# Altium footprint library crystal_my.PCBLIB: 68 footprints (part 4 of 5)
Each footprint in its own frame and in the unit in brackets; x right, y up, seen from the top. Pads: shape width x height; smd on the part's side, far side on the other; paste and mask are expansions set on the pad; w line width, h text height; cw(c..) or ccw(c..) is an arc to the next point about the centre after c.
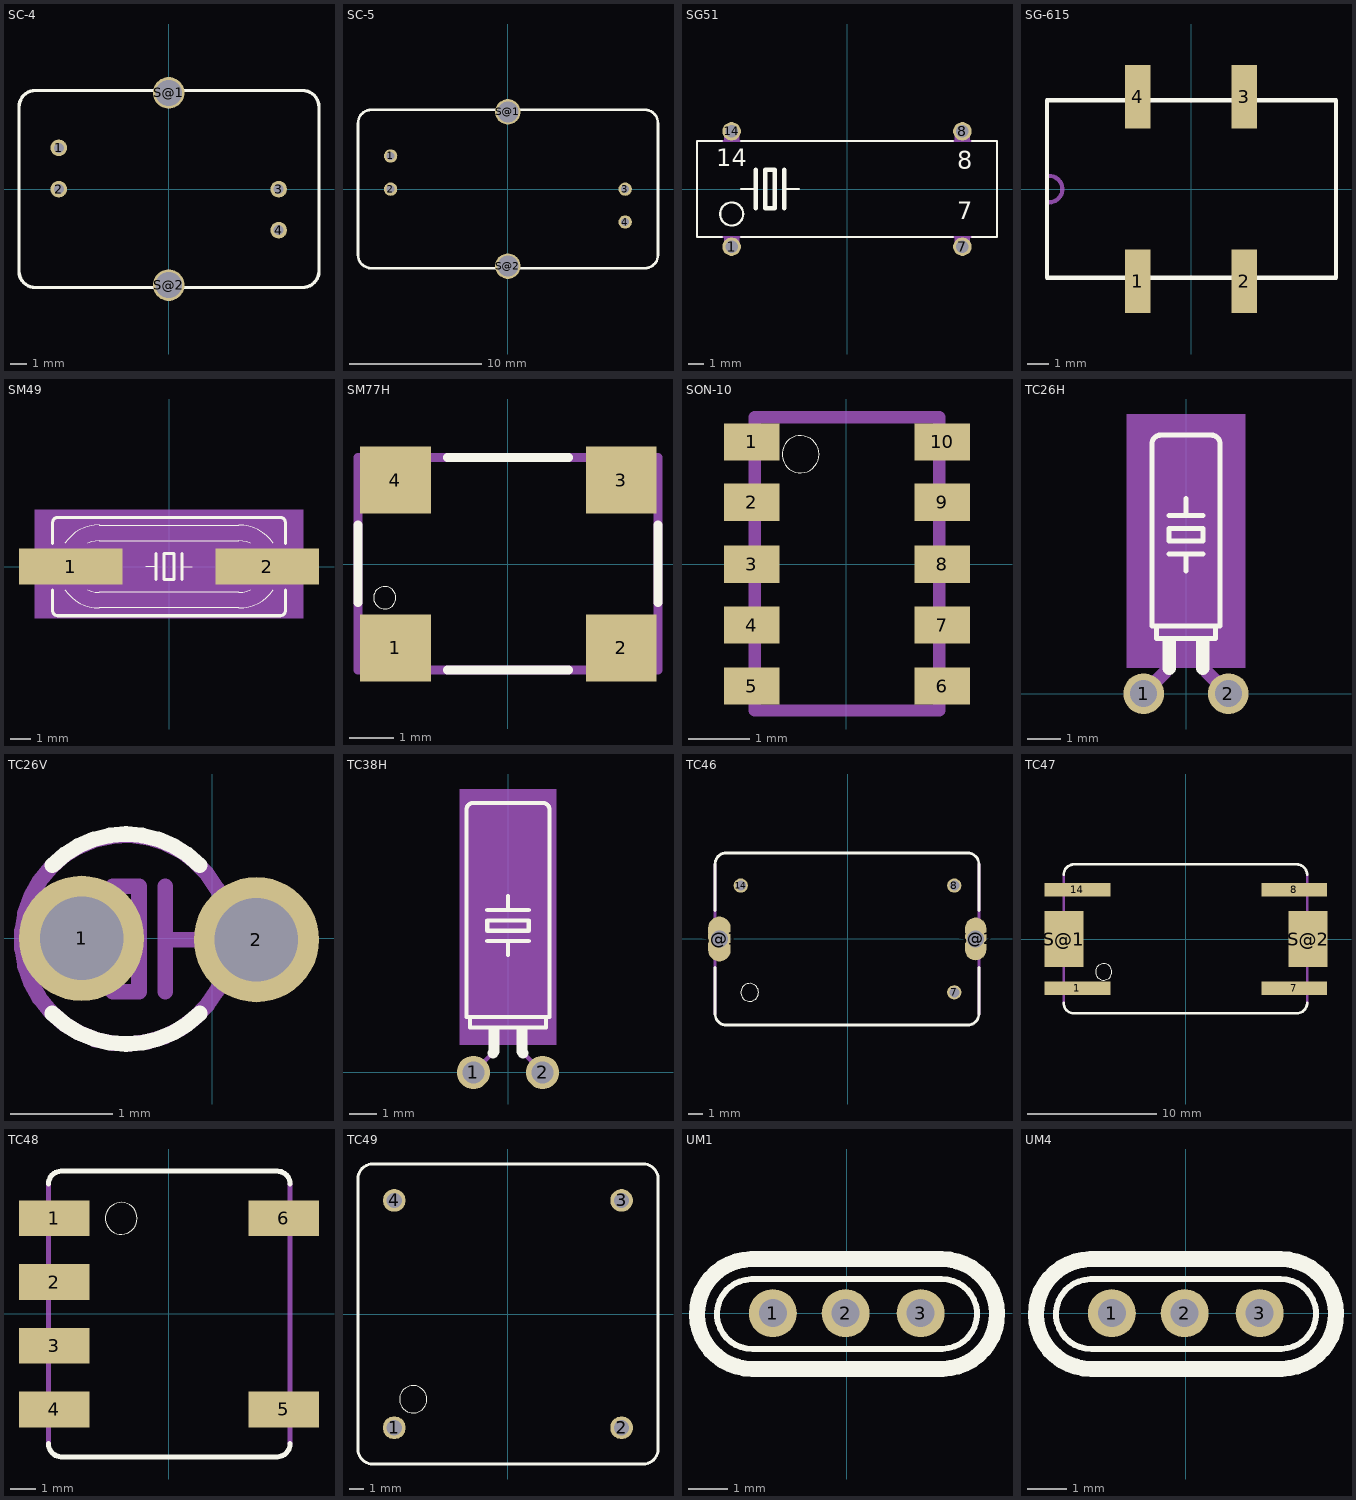
[diagram p3: the footprints below, top view; thin cyan lines are the x and y axes]

## SC-4 [mil]
pads (6):
  round 40 hole 24: 1(-263.78,99) 2(-263.78,0) 3(264,0) 4(264,-98.43)
  round 76 hole 63: S@1(0,231) S@2(0,-230.31)
Top Overlay:
  lines w8: -359.25,-196.85 -359.25,197 cw(c-319.57,197.31) -319.88,237 321,237 cw(c321,197) 361,197 361,-196.85 cw(c321.31,-196.54) 321,-236.22 -319.88,-236.22 cw(c-319.88,-196.85) -359.25,-196.85

## SC-5 [mil]
pads (6):
  round 40 hole 24: 1(-350.39,99) 2(-350.39,0) 3(351,0) 4(351,-98.43)
  round 76 hole 63: S@1(0,231) S@2(0,-230.31)
Top Overlay:
  lines w8: -447.83,-196.85 -447.83,197 cw(c-408.15,197.31) -408.46,237 410,237 cw(c409.5,197.5) 449,197 449,-196.85 cw(c409.81,-197.04) 410,-236.22 -408.46,-236.22 cw(c-408.46,-196.85) -447.83,-196.85

## SG51 [mil]
pads (4):
  round 48 hole 32: 1(-300,-150) 7(300,-150) 8(300,150) 14(-300,150)
Top Overlay:
  circle w6: c-300,-65 r30
  lines w6: -325,-125 -390,-125 -390,125 -325,125 ; -275,-125 275,-125 ; -275,0 -237,0 ; -275,125 275,125 ; -163,0 -125,0 ; 325,-125 390,-125 390,125 325,125
  lines w12: -237,-50 -237,0 -237,50 ; -163,-50 -163,0 -163,50 ; -213,-50 -213,50 -188,50 -188,-50 -213,-50
  text "14" at -340,44 h77.5
  text "7" at 287,-94 h77.5
  text "8" at 287,37 h77.5
Mechanical 16:
  rectangle: 280,-155 320,-125
  rectangle: 280,125 320,155
  rectangle: -320,-155 -280,-125
  rectangle: -320,125 -280,155
  lines w6: -325,-125 -275,-125 ; -325,125 -275,125 ; 275,-125 325,-125 ; 275,125 325,125

## SG-615 [mil]
pads (4):
  rect 48x119 smd: 1(-100,-173.23) 2(100,-173.23) 3(100,174) 4(-100,174)
Top Overlay:
  lines w8: -270.67,-166.34 272,-166.34 272,167 -270.67,167 -270.67,-166.34
Mechanical 16:
  rectangle: -110.24,168 -89.57,193
  rectangle: 90,168 111,193
  region: 111,-167.32 90,-167.32 90,-192.91 111,-192.91
  region: -89.76,-167.32 -110.43,-167.32 -110.43,-192.91 -89.76,-192.91
  lines w8: -266.73,-24.61 ccw(c-266.73,0.2) -266.73,25

## SM49 [mil]
pads (2):
  rect 200x70 smd: 1(-190,0) 2(190,0)
Top Overlay:
  lines w2: -201.15,-45 ccw(c-135,0) -135,-80 135,-80 ccw(c135.42,0.81) 202,-45 ; -201.15,45 cw(c-134.06,0.5) -135,81 ; -156.8,-45 ccw(c-135,0) -135,-50 135,-50 ccw(c135.1,0.45) 157,-45 ; -156.8,45 cw(c-135,0) -135,50 135,50 cw(c135.1,-0.45) 157,45 ; -135,80 135,80 cw(c135.43,-0.81) 202,45 ; -45,0 -25,0 ; 25,0 45,0
  lines w6: -225,-45 -225,-85 ccw(c-215,-85) -215,-95 215,-95 ccw(c215,-85) 225,-85 225,-45 ; -225,45 -225,85 cw(c-215,85) -215,95 215,95 cw(c215,85) 225,85 225,45 ; -25,-25 -25,0 -25,25 ; 25,-25 25,0 25,25 ; -10,-25 -10,25 10,25 10,-25 -10,-25
Mechanical 10:
  rectangle: -260,-100 260,110
Mechanical 16:
  lines w2: -201.15,-45 cw(c-135,0) -201.15,45 ; -156.8,-45 cw(c-135,0) -156.8,45 ; 157,-45 ccw(c135.2,0) 157,45 ; 202,-45 ccw(c135.85,0) 202,45
  lines w6: -225,-45 -225,45 ; -225,-15 -255,-15 -255,15 -225,15 ; 225,-45 225,-15 ; 225,45 225,15 ; 225,-15 225,15 ; 225,-15 255,-15 255,15 225,15

## SM77H [mil]
pads (4):
  rect 63x60 smd: 1(-100.39,-74.8) 2(101,-74.8) 3(101,75) 4(-100.39,75)
Top Overlay:
  circle w0: c-110,-30 r10
  lines w8: -133.86,-34.49 -133.86,35 ; -53.86,-94.49 54,-94.49 ; -53.86,95 54,95 ; 134,-34.49 134,35
Mechanical 16:
  lines w8: -133.86,-94.49 134,-94.49 134,95 -133.86,95 -133.86,-94.49

## SON-10 [mil]
pads (10):
  rect 36x24 smd: 1(-61.02,79) 2(-61.02,40) 3(-61.02,0) 4(-61.02,-39.37) 5(-61.02,-78.74) 6(62,-78.74) 7(62,-39.37) 8(62,0) 9(62,40) 10(62,79)
Top Overlay:
  circle w0: c-29.53,71 r12
Mechanical 16:
  lines w8: -59.06,-94.49 -59.06,95 60,95 60,-94.49 -59.06,-94.49

## TC26H [mil]
pads (2):
  round 48 hole 32: 1(-50,0) 2(50,0)
Top Overlay:
  rectangle: 12,40 28,63
  rectangle: -28,40 -12,63
  lines w6: -20,165 0,165 ; -20,210 0,210 ; 0,145 0,165 ; 0,230 0,210 ; 20,165 0,165 ; 20,210 0,210 ; -35,80 -35,65 35,65 35,80 ; -35,80 -40,80 -40,295 cw(c-30,295) -30,305 30,305 cw(c30,295) 40,295 40,80 35,80 ; -35,80 35,80 ; -20,180 -20,195 20,195 20,180 -20,180
  lines w16: -20,30 -20,50 ; 20,30 20,45
Mechanical 10:
  rectangle: -70,30 70,330
Mechanical 16:
  lines w16: -50,0 -25,25 ; 25,25 50,0

## TC26V [mil]
pads (2):
  round 48 hole 32: 1(-50,0) 2(17,-0.5)
Top Overlay:
  lines w6: -61.28,-28.78 ccw(c-33,-0.5) -33,-40.5 ccw(c-33,-0.5) -4.72,-28.78 ; -61.28,28 cw(c-32.66,-0.14) -33,40 cw(c-33.34,-0.14) -4.72,28
Mechanical 16:
  circle w6: c-33,-0.5 r40
  lines w6: -63,-0.5 -48,-0.5 ; -48,-20.5 -48,-0.5 ; -48,20 -48,-0.5 ; -18,-20.5 -18,-0.5 ; -18,20 -18,-0.5 ; -3,-0.5 -18,-0.5 ; -38,-20.5 -28,-20.5 -28,20 -38,20 -38,-20.5

## TC38H [mil]
pads (2):
  round 48 hole 32: 1(-50,0) 2(50,0)
Top Overlay:
  rectangle: 12,40 28,63
  rectangle: -28,40 -12,63
  lines w6: -30,190 0,190 ; -30,235 0,235 ; 0,170 0,190 ; 0,255 0,235 ; 30,190 0,190 ; 30,235 0,235 ; -55,80 -55,65 55,65 55,80 ; -55,80 -60,80 -60,380 cw(c-50,380) -50,390 50,390 cw(c50,380) 60,380 60,80 55,80 ; -55,80 55,80 ; -30,205 -30,220 30,220 30,205 -30,205
  lines w16: -22,28 -20,30 -20,40 ; 20,45 20,30 22,28
Mechanical 10:
  rectangle: -70,40 70,410
Mechanical 16:
  lines w6: -50,0 -25,25 ; 25,25 50,0

## TC46 [mil]
pads (5):
  round 40 hole 28: 7(300,-150) 8(300,150) 14(-300,150)
  oval 63x126 hole 48: S@1(-360,0)
  oval 60x120 hole 48: S@2(360,0)
Top Overlay:
  circle w0: c-275,-150 r25
  lines w8: -372.05,-80.35 -372.05,-210.63 ccw(c-340.55,-210.63) -340.55,-242.13 337,-242.13 ccw(c337.25,-210.38) 369,-210.63 369,-80.35 ; -372.05,80 -372.05,210 cw(c-340.3,210.25) -340.55,242 337,242 cw(c337,210) 369,210 369,80
Mechanical 11:
  lines w0: -383.62,-30.31 ccw(c-360,-30.32) -360,-53.94 ccw(c-360,-30.32) -336.38,-30.32 -336.38,31 ccw(c-359.69,30.69) -360,54 ccw(c-360.31,30.69) -383.62,31 -383.62,-30.32 ; 337,-30.31 ccw(c360.31,-30.63) 360,-53.94 ccw(c360.19,-30.13) 384,-30.32 384,31 ccw(c360.5,30.5) 360,54 ccw(c360,31) 337,31 337,-30.32
Mechanical 16:
  lines w8: -372.05,-210.63 -372.05,210 ; 369,-210.63 369,210

## TC47 [mil]
pads (6):
  rect 200x40 smd: 1(-329.92,-150) 7(330,-150) 8(330,150) 14(-329.92,150)
  rect 119x170 smd: S@1(-371.06,0) S@2(372,0)
Top Overlay:
  circle w0: c-250,-100 r25
  lines w8: -372.05,-194.88 ccw(c-340.55,-194.88) -340.55,-226.38 337,-226.38 ccw(c337.25,-194.63) 369,-194.88 ; -372.05,195 cw(c-340.3,195.25) -340.55,227 337,227 cw(c337,195) 369,195
Mechanical 16:
  lines w8: -372.05,-194.88 -372.05,195 ; 369,-194.88 369,195

## TC48 [mil]
pads (6):
  rect 111x56 smd: 1(-179.92,150) 2(-179.92,50) 3(-179.92,-50) 4(-179.92,-150) 5(180,-150) 6(180,150)
Top Overlay:
  circle w0: c-75,150 r25
  lines w8: -189.02,-203.68 ccw(c-168.85,-204.23) -169.33,-224.41 170,-224.41 ccw(c169.68,-204.09) 190,-203.68 ; -189.02,204 cw(c-169.21,204.19) -169.33,224 170,224 cw(c170.03,204.03) 190,204
Mechanical 16:
  lines w8: -189.02,-203.68 -189.02,204 ; 190,-203.68 190,204

## TC49 [mil]
pads (4):
  round 60 hole 40: 1(-300,-300) 2(300,-300) 3(300,300) 4(-300,300)
Top Overlay:
  circle w0: c-250,-225 r36
  lines w8: -395.67,-356.3 -395.67,357 cw(c-356.48,356.81) -356.3,396 357,396 cw(c357,357) 396,357 396,-356.3 cw(c356.81,-356.48) 357,-395.67 -356.3,-395.67 cw(c-356.3,-356.3) -395.67,-356.3

## UM1 [mil]
pads (3):
  round 48 hole 28: 1(-73.82,0) 2(-1.06,0) 3(74,0)
Top Overlay:
  lines w6: -95.31,34 95,34 cw(c95.5,-0.78) 96,-35.55 -94.33,-35.55 cw(c-94.82,-0.78) -95.31,34
  lines w16: -95.31,54 95,54 cw(c95.5,-0.78) 96,-55.55 -94.33,-55.55 cw(c-94.82,-0.78) -95.31,54

## UM4 [mil]
pads (3):
  round 48 hole 28: 1(-73.82,0) 2(-1.06,0) 3(74,0)
Top Overlay:
  lines w6: -95.31,34 95,34 cw(c95.5,-0.78) 96,-35.55 -94.33,-35.55 cw(c-94.82,-0.78) -95.31,34
  lines w16: -95.31,54 95,54 cw(c95.5,-0.78) 96,-55.55 -94.33,-55.55 cw(c-94.82,-0.78) -95.31,54